# Altium footprint library TSSOP-24.PcbLib: 1 footprints
Each footprint in its own frame and in the unit in brackets; x right, y up, seen from the top. Pads: shape width x height; smd on the part's side, far side on the other; paste and mask are expansions set on the pad; w line width, h text height; cw(c..) or ccw(c..) is an arc to the next point about the centre after c.
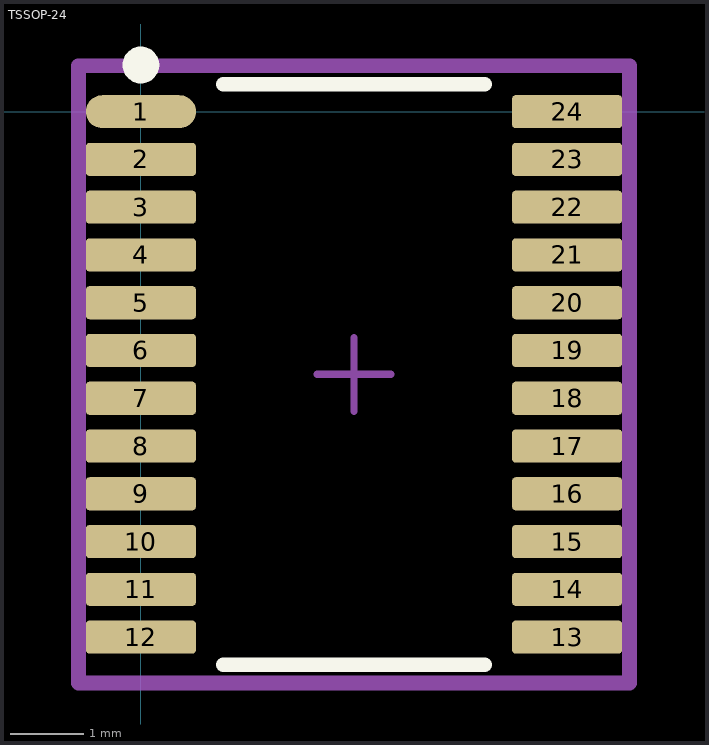
[diagram p0: the footprint, top view; thin cyan lines are the x and y axes]

## TSSOP-24 [mm]
height 0.03
pads (24):
  oval 1.5x0.45 smd paste+0 mask+0: 1(0,0)
  rrect22% 1.5x0.45 smd paste+0 mask+0: 2(0,-0.65) 3(0,-1.3) 4(0,-1.95) 5(0,-2.6) 6(0,-3.25) 7(0,-3.9) 8(0,-4.55) 9(0,-5.2) 10(0,-5.85) 11(0,-6.5) 12(0,-7.15) 13(5.8,-7.15) 14(5.8,-6.5) 15(5.8,-5.85) 16(5.8,-5.2) 17(5.8,-4.55) 18(5.8,-3.9) 19(5.8,-3.25) 20(5.8,-2.6) 21(5.8,-1.95) 22(5.8,-1.3) 23(5.8,-0.65) 24(5.8,0)
Top Overlay:
  circle w0.25: c0,0.635 r0.125
  lines w0.2: 1.125,-7.525 4.675,-7.525 ; 1.125,0.375 4.675,0.375
Top Courtyard:
  lines w0.2: -0.85,-7.775 6.65,-7.775 6.65,0.625 -0.85,0.625 -0.85,-7.775
Top Component Center:
  lines w0.1: 2.4,-3.575 3.4,-3.575 ; 2.9,-4.075 2.9,-3.075
3D body "IC_Texas_Instruments_SN74LVC8T245PWR_eec.STEP": height 0.25, standoff 0, extent -0.85,-7.775 6.65,0.625